# Altium schematic symbol library RF IC.SchLib: 7 symbols
Pins are listed as number, name and electrical type; pins without a type are passive.

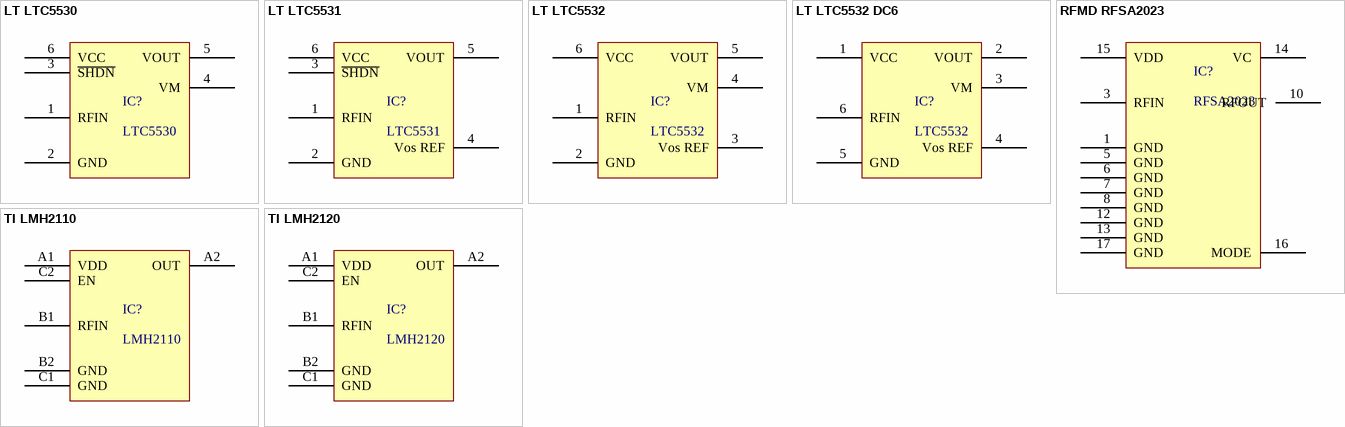
[diagram p0: symbols LT LTC5530 to TI LMH2120]

## LT LTC5530
designator IC?, comment LTC5530
Precision 300MHz to 7GHz  RF Detector with Shutdown  and Gain Adjustment
pins: 1 RFIN, 2 GND, 3 ~{SHDN}, 4 VM, 5 VOUT, 6 VCC

## LT LTC5531
designator IC?, comment LTC5531
Precision 300MHz to 7GHz  RF Detector with Shutdown  and Offset Adjustment
pins: 1 RFIN, 2 GND, 3 ~{SHDN}, 4 Vos REF, 5 VOUT, 6 VCC

## LT LTC5532
designator IC?, comment LTC5532
Precision 300MHz to 7GHz  RF Detector with Shutdown  and Gain Adjustment
pins: 1 RFIN, 2 GND, 3 Vos REF, 4 VM, 5 VOUT, 6 VCC

## LT LTC5532 DC6
designator IC?, comment LTC5532
Precision 300MHz to 7GHz  RF Detector with Shutdown  and Gain Adjustment
pins: 1 VCC, 2 VOUT, 3 VM, 4 Vos REF, 5 GND, 6 RFIN

## RFMD RFSA2023
designator IC?, comment RFSA2023
VOLTAGE CONTROLLED ATTENUATOR
pins: 1 GND, 3 RFIN, 5 GND, 6 GND, 7 GND, 8 GND, 10 RFOUT, 12 GND, 13 GND, 14 VC, 15 VDD, 16 MODE, 17 GND

## TI LMH2110
designator IC?, comment LMH2110
LMH2110 8-GHz Logarithmic RMS Power Detector with 45-dB Dynamic Range
pins: A1 VDD, A2 OUT, B1 RFIN, B2 GND, C1 GND, C2 EN

## TI LMH2120
designator IC?, comment LMH2120
LMH2120 6 GHz Linear RMS Power Detector with 40 dB Dynamic Range
pins: A1 VDD, A2 OUT, B1 RFIN, B2 GND, C1 GND, C2 EN